# EAGLE library part R-ARRAY-ISO10 (library old-4ms-main-parts)
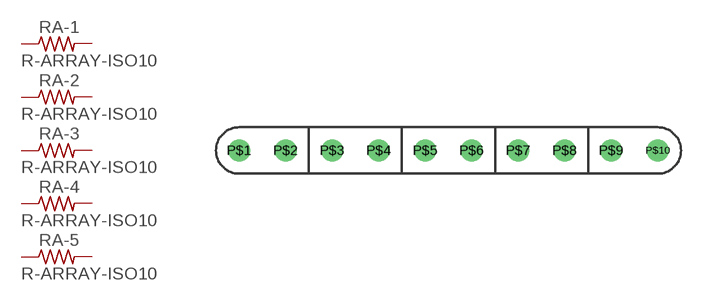
[diagram p22: symbol with the pads of R-ARRAY-SIP10-ISO; footprint R-ARRAY-SIP10-ISO]

Designator prefix RA; gates -1=R -2=R -3=R -4=R -5=R

## R-ARRAY-ISO10-SIP10  [R-ARRAY-SIP10-ISO]
P$1  -1:1  pas
P$2  -1:2  pas
P$3  -2:1  pas
P$4  -2:2  pas
P$5  -3:1  pas
P$6  -3:2  pas
P$7  -4:1  pas
P$8  -4:2  pas
P$9  -5:1  pas
P$10  -5:2  pas

## Footprint R-ARRAY-SIP10-ISO (pad centres in mm)
drill 0.711: P$1 -11.43,0; P$2 -8.89,0; P$3 -6.35,0; P$4 -3.81,0; P$5 -1.27,0; P$6 1.27,0; P$7 3.81,0; P$8 6.35,0; P$9 8.89,0; P$10 11.43,0